# Altium footprint library CHIP_2917.PcbLib: 1 footprints
Each footprint in its own frame and in the unit in brackets; x right, y up, seen from the top. Pads: shape width x height; smd on the part's side, far side on the other; paste and mask are expansions set on the pad; w line width, h text height; cw(c..) or ccw(c..) is an arc to the next point about the centre after c.
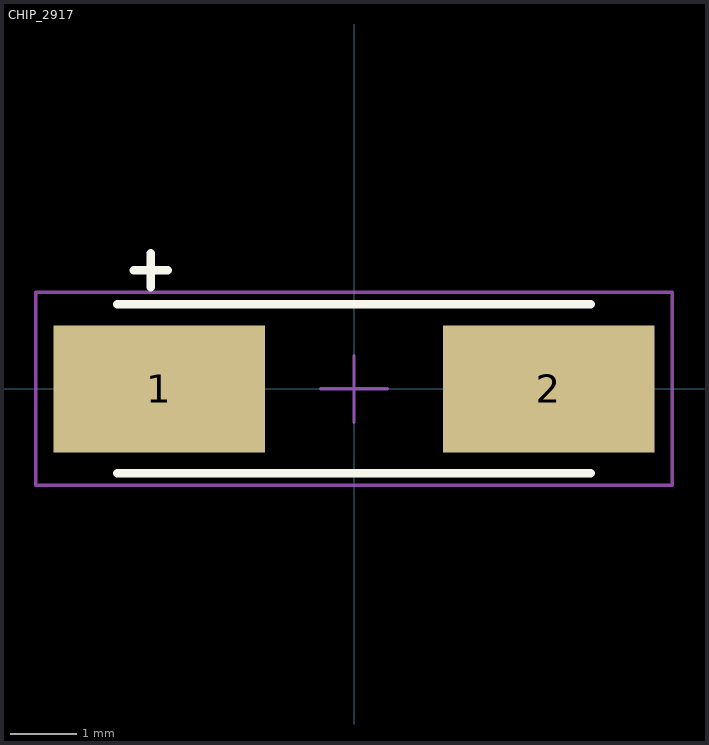
[diagram p0: the footprint, top view; thin cyan lines are the x and y axes]

## CHIP_2917 [mil]
pads (2):
  rect 125x75 smd: 1(-115,0) 2(115,0)
Top Overlay:
  lines w5: -140,-50 140,-50 ; -140,50 140,50 ; -130,70 -110,70 ; -120,60 -120,80
Mechanical 15:
  lines w1.97: -19.68,0 19.69,0 ; 0,-19.69 0,19.68 ; -188,-57 -188,57 188,57 188,-57 -188,-57
3D body: height 118.11, standoff 0, extent -140,-47 140,47